# Altium footprint library molex_microfit_0436500219.PcbLib: 1 footprints
Each footprint in its own frame and in the unit in brackets; x right, y up, seen from the top. Pads: shape width x height; smd on the part's side, far side on the other; paste and mask are expansions set on the pad; w line width, h text height; cw(c..) or ccw(c..) is an arc to the next point about the centre after c.
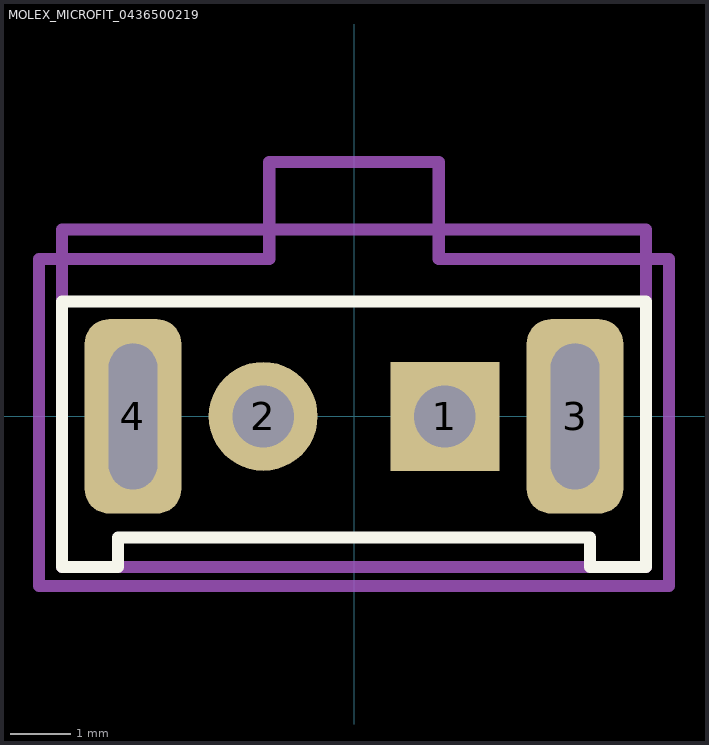
[diagram p0: the footprint, top view; thin cyan lines are the x and y axes]

## MOLEX_MICROFIT_0436500219 [mm]
pads (4):
  rect 1.8x1.8 hole 1.02: 1(1.5,0)
  round 1.8 hole 1.02: 2(-1.5,0)
  rrect50% 1.6x3.21 hole 0.8 slot 2.41 at 90 deg: 3(3.65,0) 4(-3.65,0)
Top Overlay:
  lines w0.2: -4.825,-2.485 -4.825,1.9 4.825,1.9 4.825,-2.485 3.9,-2.485 3.9,-2 -3.9,-2 -3.9,-2.485 -4.825,-2.485
Top 3D Body (Mech13):
  lines w0.2: -4.825,-2.485 4.825,-2.485 4.825,3.085 -4.825,3.085 -4.825,-2.485
Top Courtyard:
  lines w0.2: -5.2,-2.8 -5.2,2.6 -1.4,2.6 -1.4,4.2 1.4,4.2 1.4,2.6 5.2,2.6 5.2,-2.8 -5.2,-2.8
Top Designator:
  text ".Designator" at -1.397,-0.169 h0.64
3D body "0436500219 colorized.step": height 9.91, standoff -3.17, extent -4.825,-2.485 4.825,3.085